# Altium integrated library Importred_Components.IntLib: 33 symbols
Pins are listed as number, name and electrical type; pins without a type are passive.

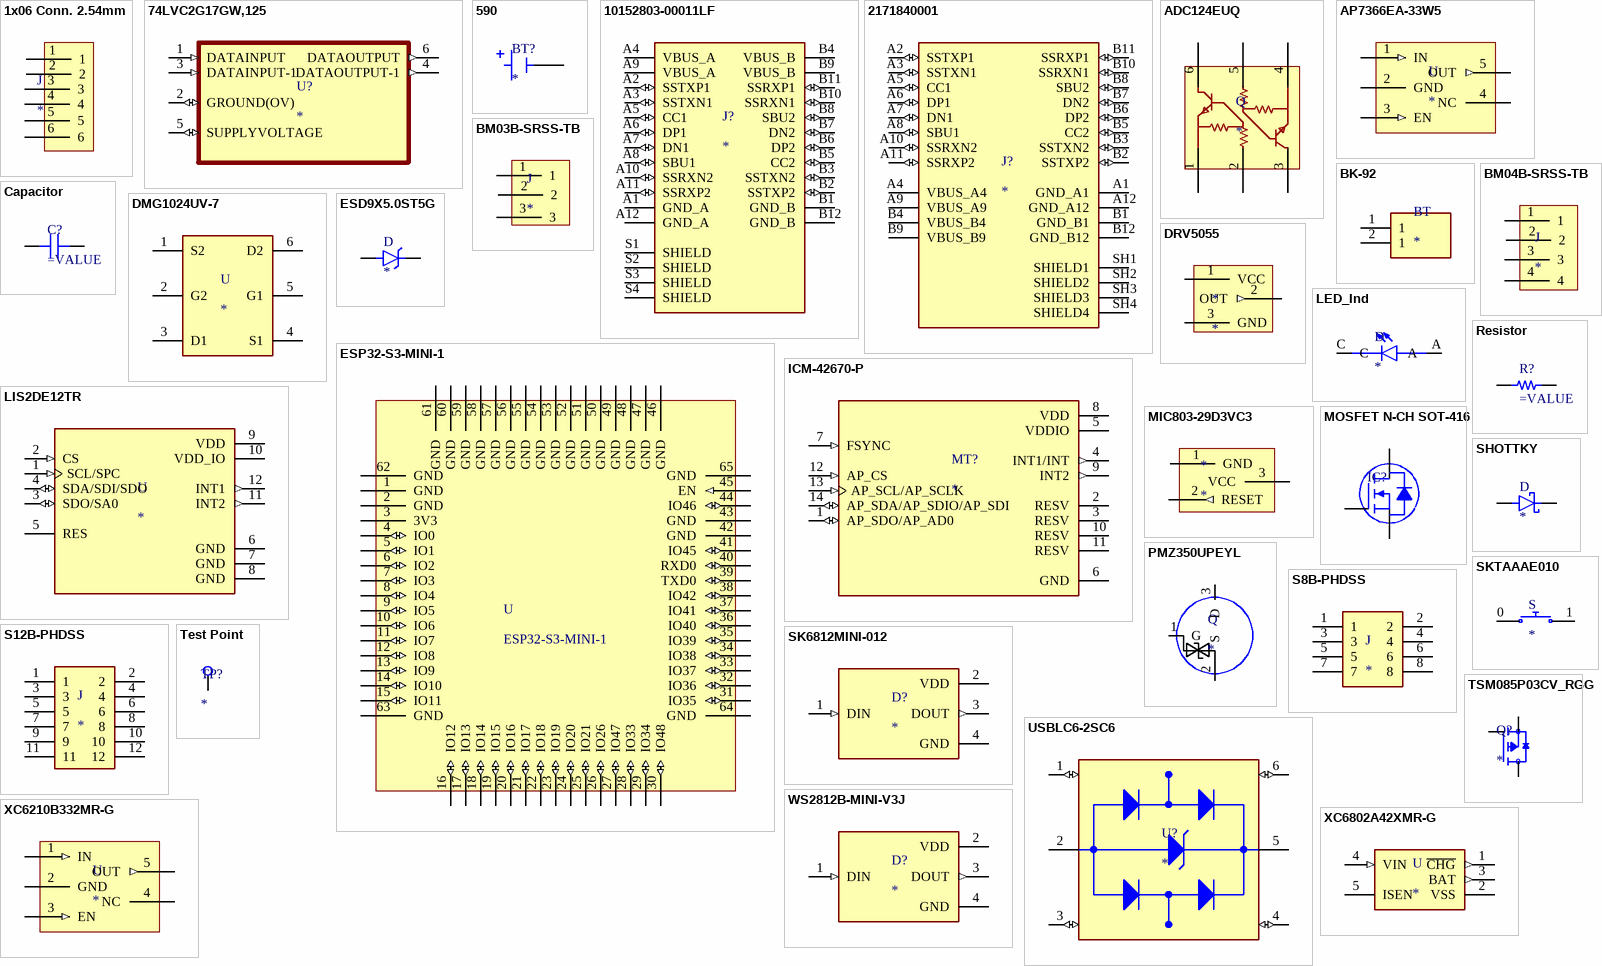
[diagram p0: symbols 1x06 Conn. 2.54mm to XC6802A42XMR-G]

## 1x06 Conn. 2.54mm
designator J
footprint 1x06 Conn. 2.54mm
pins: 1, 2, 3, 4, 5, 6

## 74LVC2G17GW,125
designator U?
Buffer, Non-Inverting 2 Element 1 Bit per Element Push-Pull Output 6-TSSOP; MF: {'manufacturer': u'Nexperia USA Inc.'}; MP: 74LVC2G17GW,125; Package: None; Price: None; Value: *; Availability: Unavailable
footprint 74LVC2G17GW,125 (SOP65 P210X110-6N)
pins: 1 DATAINPUT (in), 2 GROUND(OV) (io), 3 DATAINPUT-1 (in), 4 DATAOUTPUT-1 (out), 5 SUPPLYVOLTAGE (io), 6 DATAOUTPUT (out)

## 590
designator BT?
MP: 590; Value: *; Package: None; Price: None; Availability: Unavailable
footprint BAT_590
pins: N1 NEG, N2 NEG, N3 NEG

## 10152803-00011LF
designator J?
USB 3.2 Type C GEN 2 Receptacle SMT Dual Row 24in; MF: Amphenol FCI; MP: 10152803-00011LF; Package: None; Price: None; Check_prices: https://www.snapeda.com/parts/10152803-00011LF/Amphenol/view-part/?ref=eda; Value: *; SnapEDA_Link: https://www.snapeda.com/parts/10152803-00011LF/Amphenol/view-part/?ref=snap; Availability: In Stock; Purchase-URL: https://pricing.snapeda.com/search?q=10152803-00011LF&ref=eda
footprint AMPHENOL_10152803-00011LF
pins: A1 GND_A (power), A2 SSTXP1 (io), A3 SSTXN1 (io), A4 VBUS_A (power), A5 CC1 (io), A6 DP1 (io), A7 DN1 (io), A8 SBU1 (io), A9 VBUS_A (power), A10 SSRXN2 (io), A11 SSRXP2 (io), A12 GND_A (power), B1 GND_B (power), B2 SSTXP2 (io), B3 SSTXN2 (io), B4 VBUS_B (power), B5 CC2 (io), B6 DP2 (io), B7 DN2 (io), B8 SBU2 (io), B9 VBUS_B (power), B10 SSRXN1 (io), B11 SSRXP1 (io), B12 GND_B (power), S1 SHIELD, S2 SHIELD, S3 SHIELD, S4 SHIELD

## 2171840001
designator J?
Universal Serial Bus (USB) Shielded I/O Receptacle, Type C, Right-Angle, Surface Mount, Mid-Mount, Dual Row, 24 Circuits, Gold (Au) Plating; MF: Molex; MP: 2171840001; SnapEDA_Link: https://www.snapeda.com/parts/2171840001/Molex/view-part/?ref=snap; Package: None; Value: *; Check_prices: https://www.snapeda.com/parts/2171840001/Molex/view-part/?ref=eda
footprint MOLEX_2171840001
pins: A1 GND_A1 (power), A2 SSTXP1 (io), A3 SSTXN1 (io), A4 VBUS_A4 (power), A5 CC1 (io), A6 DP1 (io), A7 DN1 (io), A8 SBU1 (io), A9 VBUS_A9 (power), A10 SSRXN2 (io), A11 SSRXP2 (io), A12 GND_A12 (power), B1 GND_B1 (power), B2 SSTXP2 (io), B3 SSTXN2 (io), B4 VBUS_B4 (power), B5 CC2 (io), B6 DP2 (io), B7 DN2 (io), B8 SBU2 (io), B9 VBUS_B9 (power), B10 SSRXN1 (io), B11 SSRXP1 (io), B12 GND_B12 (power), SH1 SHIELD1, SH2 SHIELD2, SH3 SHIELD3, SH4 SHIELD4

## ADC124EUQ
designator Q
Pre-Biased Bipolar Transistor (BJT) 2 NPN - Pre-Biased (Dual) 50V 100mA 250MHz 270mW Surface Mount SOT-363
footprint SOT-363
pins: 1 GND, 2 IN1, 3 OUT2, 4 GND, 5 IN2, 6 OUT1

## AP7366EA-33W5
designator U
Linear Voltage Regulator IC Positive Fixed 1 Output 600mA SOT-25
footprint SOT-25
pins: 1 IN (in), 2 GND (power), 3 EN (in), 4 NC, 5 OUT (out)

## BK-92
designator BT
Battery Contact Clip AA 1 Cell PC Pin; MP: BK-92; MF: MPD; SnapEDA_Link: https://www.snapeda.com/parts/BK-92/MPD%20_Memory%20Protection%20Devices_/view-part/454392/?ref=snap; Price: None; Package: Non-Standard MPD; Availability: Unavailable; Value: *
footprint BAT_BK-92
pins: 1, 2 1

## BM03B-SRSS-TB
designator J
Connector Header Surface Mount 3 position 0.039" (1.00mm)
footprint BM03B-SRSS-TB (Connector Header Surface Mount 3 position 0.039" (1.00mm))
pins: 1, 2, 3

## BM04B-SRSS-TB
designator J
Connector Header Surface Mount 4 position 0.039" (1.00mm)
footprint BM04B-SRSS-TB (Connector Header Surface Mount 4 position 0.039" (1.00mm))
pins: 1, 2, 3, 4

## Capacitor
designator C?
SMT Capacitor
footprint CAP 0402_1005 (Chip Capacitor, 2-Leads, Body 1.02x0.51mm, IPC Medium Density)
footprint CAP1206
pins: 1, 2

## DMG1024UV-7
designator U
Mosfet Array 2 N-Channel _Dual_ 20V 1.38A 530mW Surface Mount SOT-563; MF: Diodes Inc.; MP: DMG1024UV-7; SnapEDA_Link: https://www.snapeda.com/parts/DMG1024UV-7/Diodes%20Inc./view-part/391731/?ref=snap; Price: None; Value: *; Package: SOT-563 Diodes Inc.; Availability: Unavailable
footprint 74LVC2G17GW,125 (SOP65 P210X110-6N)
pins: 1 S2, 2 G2, 3 D1, 4 S1, 5 G1, 6 D2

## DRV5055
designator *
Hall Effect Sensor Single Axis SOT-23-3
footprint SOT23-3
pins: 1 VCC (power), 2 OUT (out), 3 GND (power)

## ESD9X5.0ST5G
designator D
12.3V Clamp 8.7A _8/20Âµs_ Ipp Tvs Diode Surface Mount SOD-923; MF: ON Semiconductor; MP: ESD9X5.0ST5G; Availability: Unavailable; Value: *; Package: SOD-923 ON Semiconductor; Price: None; SnapEDA_Link: https://www.snapeda.com/parts/ESD9X5.0ST5G/ON%20Semiconductor/view-part/237761/?ref=snap
footprint SOD-923
pins: A, C K

## ESP32-S3-MINI-1
designator U
Bluetooth, WiFi 802.11b/g/n, Bluetooth v5.0 Transceiver Module 2.4GHz PCB Trace Surface Mount
footprint ESP32-S3-MINI-1
pins: 1 GND (power), 2 GND (power), 3 3V3 (power), 4 IO0 (io), 5 IO1 (io), 6 IO2 (io), 7 IO3 (io), 8 IO4 (io), 9 IO5 (io), 10 IO6 (io), 11 IO7 (io), 12 IO8 (io), 13 IO9 (io), 14 IO10 (io), 15 IO11 (io), 16 IO12 (io), 17 IO13 (io), 18 IO14 (io), 19 IO15 (io), 20 IO16 (io), 21 IO17 (io), 22 IO18 (io), 23 IO19 (io), 24 IO20 (io), 25 IO21 (io), 26 IO26 (io), 27 IO47 (io), 28 IO33 (io), 29 IO34 (io), 30 IO48 (io), 31 IO35 (io), 32 IO36 (io), 33 IO37 (io), 34 IO38 (io), 35 IO39 (io), 36 IO40 (io), 37 IO41 (io), 38 IO42 (io), 39 TXD0 (io), 40 RXD0 (io), 41 IO45 (io), 42 GND, 43 GND, 44 IO46 (io), 45 EN (in) "HIGH: ON, LOW: OFF, Do not leave floarting.", 46 GND (power), 47 GND (power), 48 GND (power), 49 GND (power), 50 GND (power), 51 GND (power), 52 GND (power), 53 GND (power), 54 GND (power), 55 GND (power), 56 GND (power), 57 GND (power), 58 GND (power), 59 GND (power), 60 GND (power), 61 GND, 62 GND (power), 63 GND, 64 GND, 65 GND

## ICM-42670-P
designator MT?
Accelerometer, Gyroscope, Temperature, 6 Axis Sensor I2C, SPI Output; MP: ICM-42670-P; Package: None; Price: None; Value: *; Availability: Unavailable
footprint XDCR_ICM-42670-P
pins: 1 AP_SDO/AP_AD0 (io), 2 RESV, 3 RESV, 4 INT1/INT (out), 5 VDDIO (power), 6 GND (power), 7 FSYNC (in), 8 VDD (power), 9 INT2 (out), 10 RESV, 11 RESV, 12 AP_CS (in), 13 AP_SCL/AP_SCLK (in), 14 AP_SDA/AP_SDIO/AP_SDI (io)

## LED_Ind
designator D
LED Indication - 0603 (1608 Metric); MP: 598-8030-107F; MF: Dialight; Price: None; Availability: Warning; SnapEDA_Link: https://www.snapeda.com/parts/598-8030-107F/Dialight/view-part/280679/?ref=snap; Value: *; Mouser-Purchase-URL: https://snapeda.com/shop?store=Mouser&id=280679; Package: 0603 Dialight
footprint LEDSC160X80X70L45N
pins: A, C

## LIS2DE12TR
designator U
Accelerometer X, Y, Z Axis Â±2g, 4g, 8g, 16g 0.5Hz ~ 2.69kHz 12-LGA _2x2_; MP: LIS2DE12TR; MF: STMicroelectronics; Package: LGA-12 STMicroelectronics; SnapEDA_Link: https://www.snapeda.com/parts/LIS2DE12TR/STMicroelectronics/view-part/470072/?ref=snap; Value: *; Availability: Unavailable; Price: None
footprint LIS2DE12TR_200X200X100-12N
pins: 1 SCL/SPC (in), 2 CS (in), 3 SDO/SA0 (io), 4 SDA/SDI/SDO (io), 5 RES, 6 GND (power), 7 GND (power), 8 GND (power), 9 VDD (power), 10 VDD_IO (power), 11 INT2 (out), 12 INT1 (out)

## MIC803-29D3VC3
designator *
Supervisor Open Drain or Open Collector 1 Channel SC-70-3 Voltage - Threshold 2.93V
footprint MIC803-29D3VC3 (Supervisor Open Drain or Open Collector 1 Channel SC-70-3 Voltage - Threshold 2.93V)
pins: 1 GND (power), 2 RESET (out), 3 VCC (power)

## MOSFET N-CH SOT-416
designator IC?
footprint TRANS_SOT-416
pins: 1 G, 2 S, 3 D

## PMZ350UPEYL
designator Q
P-Channel 20 V 1A (Ta) 360mW (Ta), 3.125W (Tc) Surface Mount SOT-883
footprint SOT-883
pins: 1 G, 2 S, 3 D

## Resistor
designator R?
SMT Resistor
footprint RES 0402_1005 RF (Chip Resistor, 2-Leads, Body 1.0x0.5mm, IPC High Density)
pins: 1, 2

## S8B-PHDSS
designator J
Connector Header Through Hole, Right Angle 8 position 0.079 _2.00mm_; MF: JST Sales; MP: S8B-PHDSS; SnapEDA_Link: https://www.snapeda.com/parts/S8B-PHDSS/JST%20Sales%20America%20Inc./view-part/761599/?ref=snap; Value: *; Price: None; Availability: Unavailable; Package: None
footprint JST_S8B-PHDSS (Connector Header Through Hole, Right Angle 8 position 0.079" (2.00mm))
pins: 1, 2, 3, 4, 5, 6, 7, 8

## S12B-PHDSS
designator J
Connector Header Through Hole, Right Angle 12 position 0.079 _2.00mm_; MF: JST Sales; MP: S8B-PHDSS; SnapEDA_Link: https://www.snapeda.com/parts/S8B-PHDSS/JST%20Sales%20America%20Inc./view-part/761599/?ref=snap; Value: *; Price: None; Availability: Unavailable; Package: None
footprint JST_S12B-PHDSS (Connector Header Through Hole, Right Angle 12 position 0.079" (2.00mm))
pins: 1, 2, 3, 4, 5, 6, 7, 8, 9, 10, 11, 12

## SHOTTKY
designator D
Generic Shottky; MF: ON Semiconductor; MP: ESD9X5.0ST5G; Availability: Unavailable; Value: *; Package: SOD-923 ON Semiconductor; Price: None; SnapEDA_Link: https://www.snapeda.com/parts/ESD9X5.0ST5G/ON%20Semiconductor/view-part/237761/?ref=snap
footprint SOD-923
pins: A, C K

## SK6812MINI-012
designator D?
INTEGRATED LIGHT SOURCE INTELLIGENT CONTROL OF CHIP-ON-TOP SMD TYPE LED 3535; MF: DONGGUANG OPSCO OPTOELECTRONICS CO., LTD; MP: SK6812MINI-012; SnapEDA_Link: https://www.snapeda.com/parts/SK6812MINI-012/DONGGUANG+OPSCO+OPTOELECTRONICS+CO.%252C+LTD/view-part/?ref=snap; Package: Package; Value: *; Check_prices: https://www.snapeda.com/parts/SK6812MINI-012/DONGGUANG+OPSCO+OPTOELECTRONICS+CO.%252C+LTD/view-part/?ref=eda
footprint LED_SK6812MINI-012 (SMD RGB LEDs(Built-in IC) ROHS 3535)
pins: 1 DIN (in), 2 VDD (power), 3 DOUT (out), 4 GND (power)

## SKTAAAE010
designator S
1.6mm 0.53mm Round Button 50mA Standing paste 2.6mm SPST 12V SMD Tactile Switches ROHS
footprint SKTAAAE010 (1.6mm 0.53mm Round Button 50mA Standing paste 2.6mm SPST 12V SMD Tactile Switches ROHS)
pins: 0, 1

## Test Point
designator TP?
footprint THT-Test_Point
pins: 1 TP

## TSM085P03CV_RGG
designator Q?
-30, -64, Single P-Channel; MF: Taiwan Semiconductor Corporation; MP: TSM085P03CV RGG; SnapEDA_Link: https://www.snapeda.com/parts/TSM085P03CV%20RGG/Taiwan+Semiconductor/view-part/?ref=snap; Package: PDFN33 Taiwan Semiconductor; Value: *; Check_prices: https://www.snapeda.com/parts/TSM085P03CV%20RGG/Taiwan+Semiconductor/view-part/?ref=eda
footprint TRANS_8PDFN
pins: 1 S, 2 S, 3 S, 4 G, 5_8 D

## USBLC6-2SC6
designator U?
17V Clamp 5A (8/20Âµs) Ipp Tvs Diode Surface Mount SOT-23-6; MF: STMicroelectronics; MP: USBLC6-2SC6; Value: *; SnapEDA_Link: https://www.snapeda.com/parts/USBLC6-2SC6/STMicroelectronics/view-part/?ref=snap; Check_prices: https://www.snapeda.com/parts/USBLC6-2SC6/STMicroelectronics/view-part/?ref=eda; Purchase-URL: https://pricing.snapeda.com/search/part/USBLC6-2SC6/?ref=eda; Price: None; Availability: In Stock; Package: SOT-23-6 STMicroelectronics
footprint SOT95P280X145-6N
pins: 1 I/O1_IN (io), 2 GND (power), 3 I/O2_IN (io), 4 I/O2_OUT (io), 5 VBUS (power), 6 I/O1_OUT (io)

## WS2812B-MINI-V3J
designator D?
INTEGRATED LIGHT SOURCE INTELLIGENT CONTROL OF CHIP-ON-TOP SMD TYPE LED 3535; MF: DONGGUANG OPSCO OPTOELECTRONICS CO., LTD; MP: SK6812MINI-012; SnapEDA_Link: https://www.snapeda.com/parts/SK6812MINI-012/DONGGUANG+OPSCO+OPTOELECTRONICS+CO.%252C+LTD/view-part/?ref=snap; Package: Package; Value: *; Check_prices: https://www.snapeda.com/parts/SK6812MINI-012/DONGGUANG+OPSCO+OPTOELECTRONICS+CO.%252C+LTD/view-part/?ref=eda
footprint WS2812B-MINI-V3J
pins: 1 DIN (in), 2 VDD (power), 3 DOUT (out), 4 GND (power)

## XC6210B332MR-G
designator U
Linear Voltage Regulator IC Positive Fixed 1 Output 700mA SOT-25
footprint SOT-25
pins: 1 IN (in), 2 GND (power), 3 EN (in), 4 NC, 5 OUT (out)

## XC6802A42XMR-G
designator U
Charger IC Lithium Ion/Polymer SOT-25; MF: Torex; MP: XC6802A42XMR-G; Package: SOT-753 Torex; Value: *; Availability: Unavailable; SnapEDA_Link: https://www.snapeda.com/parts/XC6802A42XMR-G/Torex/view-part/378965/?ref=snap; Price: None
footprint SOT-25
pins: 1 ~{CHG} (out), 2 VSS (power), 3 BAT (out), 4 VIN (in), 5 ISEN